# Altium footprint library Inductor.PcbLib: 40 footprints (part 1 of 3)
Each footprint in its own frame and in the unit in brackets; x right, y up, seen from the top. Pads: shape width x height; smd on the part's side, far side on the other; paste and mask are expansions set on the pad; w line width, h text height; cw(c..) or ccw(c..) is an arc to the next point about the centre after c.
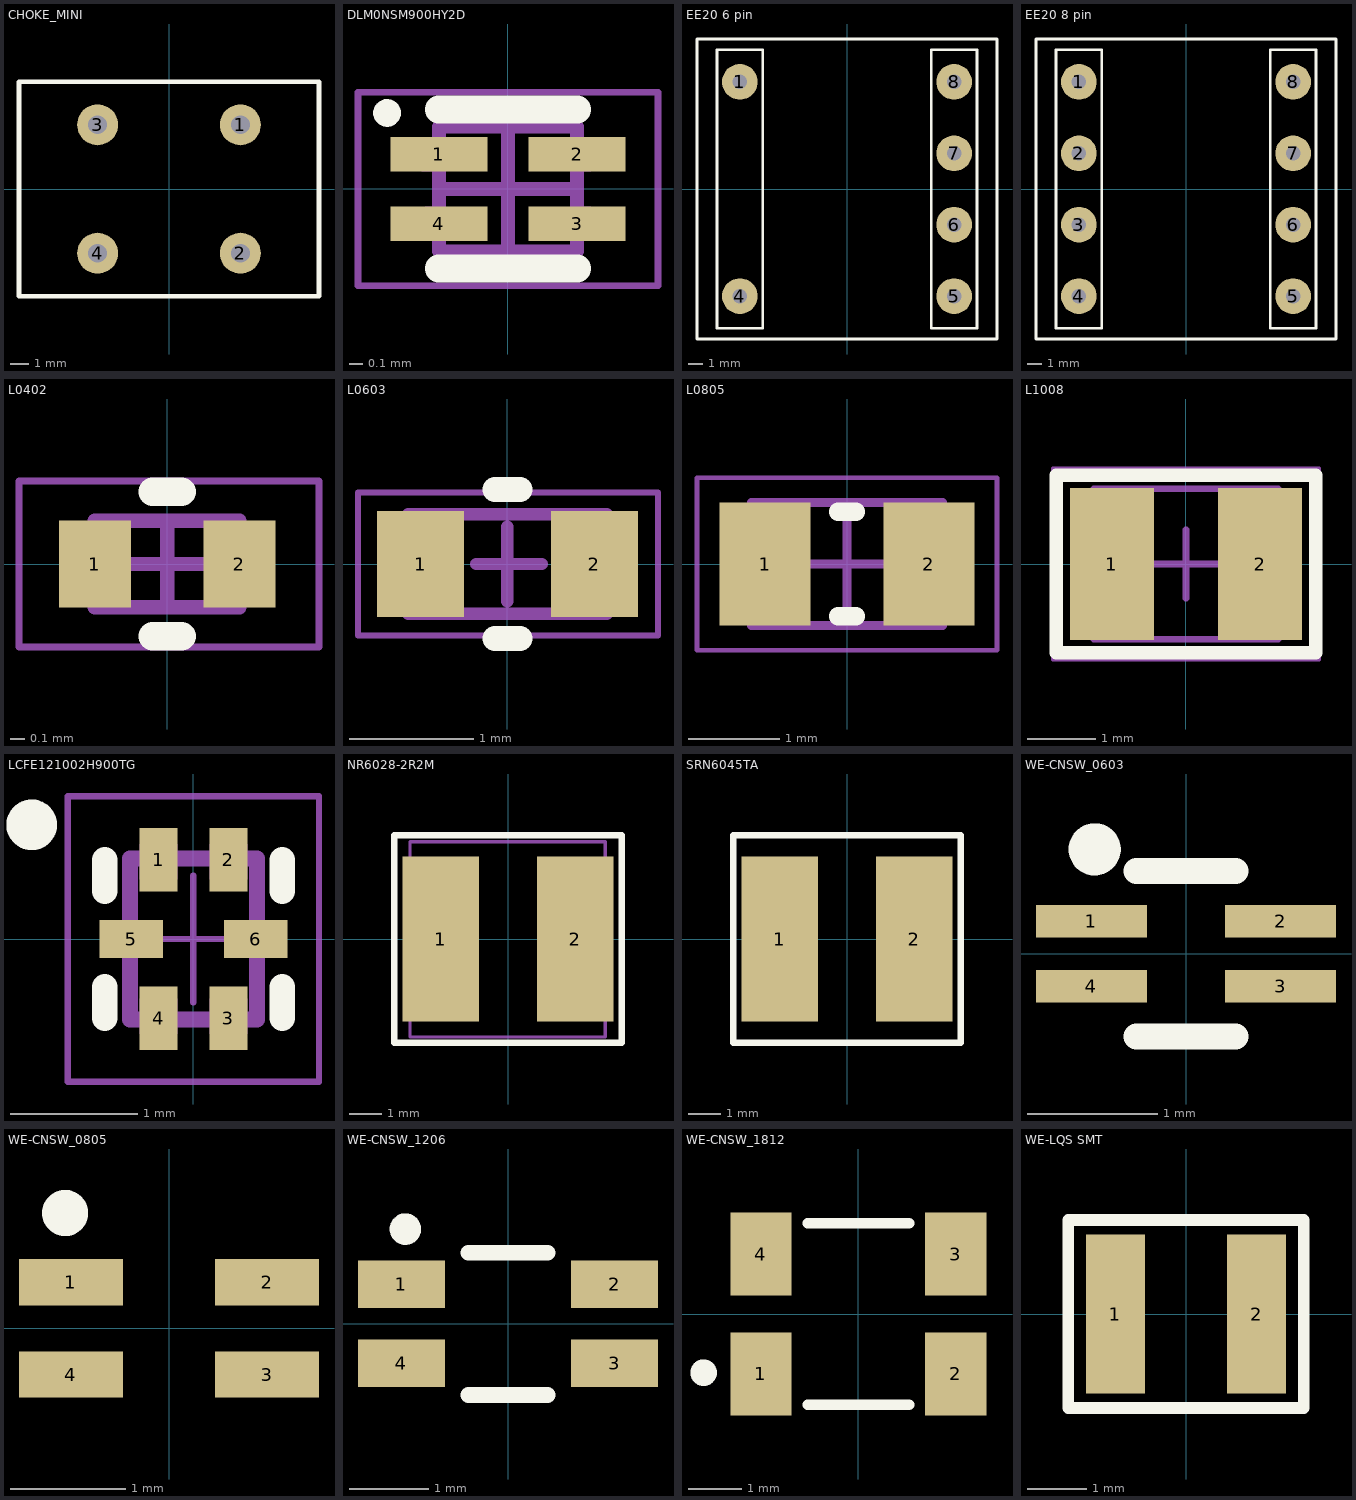
[diagram p0: the footprints below, top view; thin cyan lines are the x and y axes]

## CHOKE_MINI [mil]
pads (4):
  round 86 / inner round 60 / far side round 86 hole 39.37: 1(150,134.84) 2(150,-134.84) 3(-150,134.84) 4(-150,-134.84)
Top Overlay:
  lines w10: -314.96,-225 314.96,-225 314.96,225 -314.96,225 -314.96,-225
3D body "choke.step": height 620.97, standoff -156.98, extent -311.02,-216.53 311.02,216.54

## DLM0NSM900HY2D [mm] "Chip Array, Flat, 4-Leads, Pitch 0.50mm,  Body 0.85x0.65mm,  IPC Medium Density"
height 0.5
pads (4):
  rect 0.7x0.25 smd: 1(-0.5,0.25) 2(0.5,0.25) 3(0.5,-0.25) 4(-0.5,-0.25)
Top Overlay:
  circle w0.1: c-0.875,0.55 r0.05
  lines w0.2: -0.5,-0.575 0.5,-0.575 ; -0.5,0.575 0.5,0.575
Mechanical 13:
  rectangle: 0.5,0.125 0.6,0.375
  rectangle: 0.5,-0.375 0.6,-0.125
  region: -0.5,-0.125 -0.6,-0.125 -0.6,-0.375 -0.5,-0.375
  region: -0.525,0.375 -0.625,0.375 -0.625,0.125 -0.525,0.125
  lines w0.1: -0.5,-0.45 -0.5,0.45 0.5,0.45 0.5,-0.45 -0.5,-0.45
  text ".Designator" at -1.25,-0.083 h0.25
Mechanical 15:
  lines w0.05: -1.085,-0.7 -1.085,0.7 1.085,0.7 1.085,-0.7 -1.085,-0.7
  lines w0.1: -0.5,0 0.5,0 ; 0,-0.5 0,0.5
3D body "CAF-50P85X64-4N.step": height 0.5, standoff 0, extent -0.4,-0.45 0.4,0.45

## EE20 6 pin [mm]
pads (6):
  round 2.5 hole 1: 1(-7.5,7.5) 4(-7.5,-7.5) 5(7.5,-7.5) 6(7.5,-2.5) 7(7.5,2.5) 8(7.5,7.5)
Top Overlay:
  lines w0.2: -10.5,-10.5 -10.5,10.5 10.5,10.5 10.5,-10.5 -10.5,-10.5 ; -9.1,-9.75 -5.9,-9.75 -5.9,9.75 -9.1,9.75 -9.1,-9.75 ; 5.9,-9.75 5.9,9.75 9.1,9.75 9.1,-9.75 5.9,-9.75
3D body "EF20 trafo 6 pin v2.step": height 14.01, standoff -3.99, extent -10.25,-10.25 10.25,10.25

## EE20 8 pin [mm]
pads (8):
  round 2.5 hole 1: 1(-7.5,7.5) 2(-7.5,2.5) 3(-7.5,-2.5) 4(-7.5,-7.5) 5(7.5,-7.5) 6(7.5,-2.5) 7(7.5,2.5) 8(7.5,7.5)
Top Overlay:
  lines w0.2: -10.5,-10.5 10.5,-10.5 10.5,10.5 -10.5,10.5 -10.5,-10.5 ; -9.1,-9.75 -9.1,9.75 -5.9,9.75 -5.9,-9.75 -9.1,-9.75 ; 5.9,-9.75 9.1,-9.75 9.1,9.75 5.9,9.75 5.9,-9.75
3D body "EF20 trafo 8 pin v1.step": height 14.01, standoff -3.99, extent -10.25,-10.225 10.25,10.275

## L0402 [mm]
pads (2):
  rect 0.5x0.6 smd: 1(-0.5,0) 2(0.5,0)
Top Overlay:
  lines w0.2: -0.1,-0.5 0.1,-0.5 ; -0.1,0.5 0.1,0.5
Mechanical 13:
  rectangle: -0.5,-0.3 -0.302,0.3
  region: 0.5,0.3 0.302,0.3 0.302,-0.3 0.5,-0.3
  lines w0.1: -0.5,-0.3 -0.5,0.3 0.5,0.3 0.5,-0.3 -0.5,-0.3
  text ".Designator" at -1.999,0.867 h0.4
Mechanical 15:
  lines w0.05: -1.025,-0.575 -1.025,0.575 1.05,0.575 1.05,-0.575 -1.025,-0.575
  lines w0.1: -0.25,0 0.275,0 ; 0,-0.3 0,0.3
3D body "WE-TMSB-0402 (rev1).stp": height 0.51, standoff 0.01, extent -0.5,-0.25 0.5,0.25

## L0603 [mm]
pads (2):
  rect 0.7x0.85 smd: 1(-0.7,0) 2(0.7,0)
Top Overlay:
  lines w0.2: -0.1,-0.6 0.1,-0.6 ; -0.1,0.6 0.1,0.6
Mechanical 13:
  rectangle: -0.8,-0.4 -0.5,0.4
  region: 0.8,0.4 0.5,0.4 0.5,-0.4 0.8,-0.4
  lines w0.1: -0.8,-0.4 -0.8,0.4 0.8,0.4 0.8,-0.4 -0.8,-0.4
  text ".Designator" at -0.987,-0.067 h0.2
Mechanical 15:
  lines w0.05: -1.203,-0.575 -1.203,0.575 1.212,0.575 1.212,-0.575 -1.203,-0.575
  lines w0.1: -0.25,0 0.275,0 ; 0,-0.3 0,0.3
3D body "WE-CBF_0603_CBF (rev1).stp": height 0.81, standoff 0.01, extent -0.8,-0.4 0.8,0.4

## L0805 [mm]
pads (2):
  rect 1x1.35 smd: 1(-0.9,0) 2(0.9,0)
Top Overlay:
  lines w0.2: -0.1,-0.575 0.1,-0.575 ; -0.1,0.575 0.1,0.575
Mechanical 13:
  rectangle: 0.775,-0.676 1.073,0.7
  rectangle: -1.05,-0.701 -0.752,0.675
  lines w0.1: -1.05,-0.675 1.05,-0.675 1.05,0.675 -1.05,0.675 -1.05,-0.675
  text ".Designator" at -1.999,-0.133 h0.4
Mechanical 15:
  lines w0.05: -1.65,-0.95 1.65,-0.95 1.65,0.95 -1.65,0.95 -1.65,-0.95
  lines w0.1: -0.5,0 0.5,0 ; 0,-0.5 0,0.5
3D body "L0805.step": height 1.06, standoff 0.01, extent -1,-0.625 1,0.625

## L1008 [mm] "Chip Inductor, 2-Leads, Body 2.50x2.00mm, IPC Medium Density"
height 1
pads (2):
  rect 1.23x2.22 smd: 1(-1.085,0) 2(1.085,0)
Top Overlay:
  lines w0.2: -1.9,-1.3 1.9,-1.3 1.9,1.3 -1.9,1.3 -1.9,-1.3
Mechanical 13:
  rectangle: -1.35,-1.1 -0.9,1.1
  rectangle: 0.9,-1.092 1.358,1.108
  lines w0.1: -1.35,-1.1 -1.35,1.1 1.35,1.1 1.35,-1.1 -1.35,-1.1
  text ".Designator" at -0.581,-0.038 h0.2
Mechanical 15:
  lines w0.05: -1.95,-1.4 -1.95,1.4 1.95,1.4 1.95,-1.4 -1.95,-1.4
  lines w0.1: -0.5,0 0.5,0 ; 0,-0.5 0,0.5
3D body "INDC2520X10N.step": height 1, standoff 0, extent -1.35,-1.1 1.35,1.1

## LCFE121002H900TG [mm]
pads (6):
  rect 0.3x0.5 smd paste-1: 1(-0.275,0.625) 2(0.275,0.625) 3(0.275,-0.625) 4(-0.275,-0.625)
  rect 0.5x0.3 smd paste-1: 5(-0.49,0) 6(0.49,0)
Top Overlay:
  circle w0.2: c-1.275,0.9 r0.1
  lines w0.2: -0.7,-0.625 -0.7,-0.375 ; -0.7,0.375 -0.7,0.625 ; 0.7,-0.625 0.7,-0.375 ; 0.7,0.375 0.7,0.625
Top Paste:
  region: 0.84,-0.15 0.24,-0.15 0.24,0.15 0.84,0.15
  region: -0.24,-0.15 -0.84,-0.15 -0.84,0.15 -0.24,0.15
  region: -0.125,-0.975 -0.425,-0.975 -0.425,-0.375 -0.125,-0.375
  region: 0.425,-0.975 0.125,-0.975 0.125,-0.375 0.425,-0.375
  region: 0.425,0.375 0.125,0.375 0.125,0.975 0.425,0.975
  region: -0.125,0.375 -0.425,0.375 -0.425,0.975 -0.125,0.975
Mechanical 13:
  region: -0.334,-0.15 -0.334,0.15 -0.615,0.15 -0.615,-0.15
  region: -0.125,-0.469 -0.425,-0.469 -0.425,-0.75 -0.125,-0.75
  region: 0.425,-0.469 0.125,-0.469 0.125,-0.75 0.425,-0.75
  region: 0.334,0.15 0.334,-0.15 0.615,-0.15 0.615,0.15
  rectangle: 0.125,0.469 0.425,0.75
  rectangle: -0.425,0.469 -0.125,0.75
  lines w0.127: -0.5,-0.635 -0.5,0.635 0.5,0.635 0.5,-0.635 -0.5,-0.635
  text ".Designator" at 0.083,-1.25 h0.25
Mechanical 15:
  lines w0.05: -0.5,0 0.5,0 ; 0,-0.5 0,0.5 ; -0.99,-1.125 -0.99,1.125 0.99,1.125 0.99,-1.125 -0.99,-1.125
3D body "LCFE1210_LTF.step": height 0.8, standoff 0, extent -0.5,-0.661 0.5,0.661

## NR6028-2R2M [mm]
pads (2):
  rect 2.35x5.1 smd: 1(-2.075,0) 2(2.075,0)
Top Overlay:
  lines w0.2: -3.5,-3.2 3.5,-3.2 3.5,3.2 -3.5,3.2 -3.5,-3.2
Mechanical 13:
  lines w0.1: -3.025,-3.025 -3.025,3 3,3 3,-3.025 -3.025,-3.025
  text ".Designator" at -4.998,-0.333 h1
3D body "SRN6045TA.step": height 4.21, standoff 0.01, extent -3,-3 3,3

## SRN6045TA [mm]
pads (2):
  rect 2.35x5.1 smd: 1(-2.075,0) 2(2.075,0)
Top Overlay:
  lines w0.2: -3.5,-3.2 3.5,-3.2 3.5,3.2 -3.5,3.2 -3.5,-3.2
3D body "SRN6045TA.step": height 4.21, standoff 0.01, extent -3,-3 3,3

## WE-CNSW_0603 [mm] "SMT Common Mode Line Filter, 4-leads, body 1.6x0.85mm"
height 1.1
pads (4):
  rect 0.85x0.25 smd: 1(-0.725,0.25) 2(0.725,0.25) 3(0.725,-0.25) 4(-0.725,-0.25)
Top Overlay:
  circle w0.2: c-0.7,0.8 r0.1
  lines w0.2: -0.381,-0.635 0.381,-0.635 ; -0.381,0.635 0.381,0.635
3D body "0603_744230xxx.stp": height 1.09, standoff -0.01, extent -0.8,-0.425 0.8,0.425

## WE-CNSW_0805 [mm] "SMT Common Mode Line Filter, 4-leads, body 2x1.2mm"
height 1.2
pads (4):
  rect 0.9x0.4 smd: 1(-0.85,0.4) 2(0.85,0.4) 3(0.85,-0.4) 4(-0.85,-0.4)
Top Overlay:
  circle w0.2: c-0.9,1 r0.1
3D body "744231xxx.stp": height 1.19, standoff -0.01, extent -1,-0.6 1,0.6

## WE-CNSW_1206 [mm] "SMT Common Mode Line Filter, 4-leads, body 3.2x1.6mm"
height 1.8
pads (4):
  rect 1.1x0.6 smd: 1(-1.35,0.5) 2(1.35,0.5) 3(1.35,-0.5) 4(-1.35,-0.5)
Top Overlay:
  circle w0.2: c-1.3,1.2 r0.1
  lines w0.2: -0.5,-0.9 0.5,-0.9 ; -0.5,0.9 0.5,0.9
3D body "744232xxx.stp": height 1.79, standoff -0.01, extent -1.6,-0.8 1.6,0.8

## WE-CNSW_1812 [mm] "SMT Common Mode Line Filter, 4-leads, body 4.5x3.2mm"
height 2.8
pads (4):
  rect 1.15x1.55 smd: 1(-1.825,-1.125) 2(1.825,-1.125) 3(1.825,1.125) 4(-1.825,1.125)
Top Overlay:
  circle w0.25: c-2.9,-1.1 r0.125
  lines w0.2: -0.95,-1.7 0.95,-1.7 ; -0.95,1.7 0.95,1.7
3D body "744235xxx.stp": height 2.84, standoff -0.01, extent -2.25,-1.6 2.25,1.6

## WE-LQS SMT [mm]
height 1.5
pads (2):
  rect 1x2.7 smd: 1(-1.2,0) 2(1.2,0)
Top Overlay:
  lines w0.2: -2,-1.6 2,-1.6 2,1.6 -2,1.6 -2,-1.6
3D body "74404032015_WE-LQS-3015.stp": height 1.51, standoff 0.01, extent -1.5,-1.5 1.5,1.5